# EAGLE library part 4-1393240-5 (library Relays)
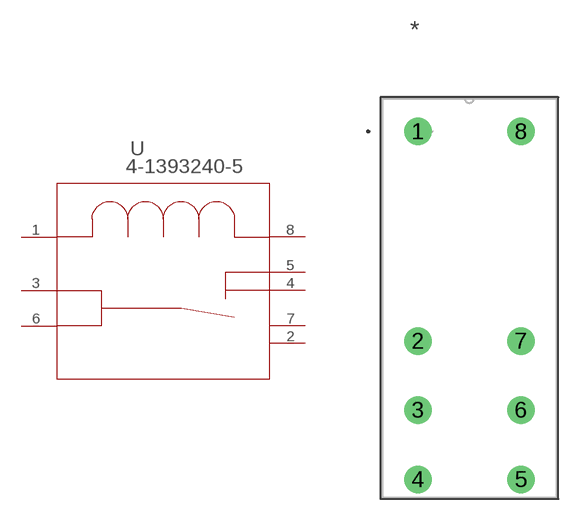
[diagram p82: symbol with the pads of RELAY8-500X1142_638; footprint RELAY8-500X1142_638]

Designator prefix U

## 4-1393240-5 (BUILT_BY: EMA_UL_Team; CATEGORY: Power Relays; COPYRIGHT: Copyright (C) 2016 Accelerated Designs. All rights reserved; DESCRIPTION: RT334012; MANUFACTURER_PART_NUMBER: RT334012; PART_STATUS: active; SERIES: SCHRACK Power PCB Relay RT1; VENDOR: TE Connectivity)  [RELAY8-500X1142_638]
1  1  pas
2  4  pas
3  2  pas
4  6  pas
5  7  pas
6  3  pas
7  5  pas
8  8  pas

## Footprint RELAY8-500X1142_638 (pad centres in mm)
drill 1.295 pad 2.007: 1 -7.493,24.282; 2 -7.493,9.017; 3 -7.493,3.988; 4 -7.493,-1.067; 5 0,-1.067; 6 0,3.988; 7 0,9.017; 8 0,24.282